# EAGLE library part PVDZ172NSPBF (library PVDZ172NSPBF)
Infineon, PVDZ172NSPBF MOSFET Output Phototransistor, Surface Mount, 8-Pin DIP Source: Datasheet <https://www.infineon.com/dgdl/pvdz172.pdf?fileId=5546d462533600a401535683ba592934>
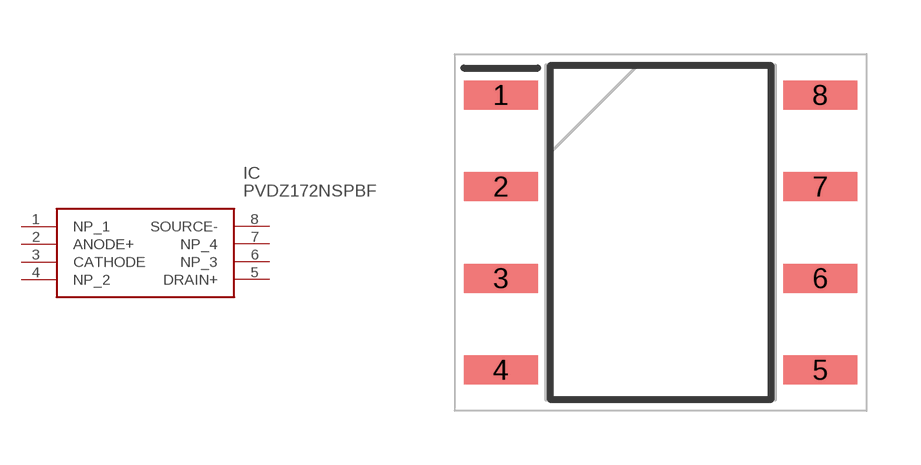
[diagram p0: symbol with the pads of SOP254P991X494-8N; footprint SOP254P991X494-8N]

Designator prefix IC

## PVDZ172NSPBF (Arrow_Part_Number: PVDZ172NSPBF; Arrow_Price-Stock: https://www.arrow.com/en/products/pvdz172nspbf/infineon-technologies-ag; Description: Infineon, PVDZ172NSPBF MOSFET Output Phototransistor, Surface Mount, 8-Pin DIP; Height: 4.94mm; Manufacturer_Name: Infineon; Manufacturer_Part_Number: PVDZ172NSPBF; Mouser_Part_Number: 942-PVDZ172NSPBF; Mouser_Price-Stock: https://www.mouser.com/Search/Refine.aspx?Keyword=942-PVDZ172NSPBF)  [SOP254P991X494-8N]
1  NP_1
2  ANODE+
3  CATHODE
4  NP_2
5  DRAIN+
6  NP_3
7  NP_4
8  SOURCE-

## Footprint SOP254P991X494-8N (pad centres in mm)
PVDZ172NSPBF -SMD
smd 2.05 x 0.8: 1 -4.425,3.81; 2 -4.425,1.27; 3 -4.425,-1.27; 4 -4.425,-3.81; 5 4.425,-3.81; 6 4.425,-1.27; 7 4.425,1.27; 8 4.425,3.81